# Altium footprint library RCU.PcbLib: 91 footprints (part 5 of 6)
Each footprint in its own frame and in the unit in brackets; x right, y up, seen from the top. Pads: shape width x height; smd on the part's side, far side on the other; paste and mask are expansions set on the pad; w line width, h text height; cw(c..) or ccw(c..) is an arc to the next point about the centre after c.
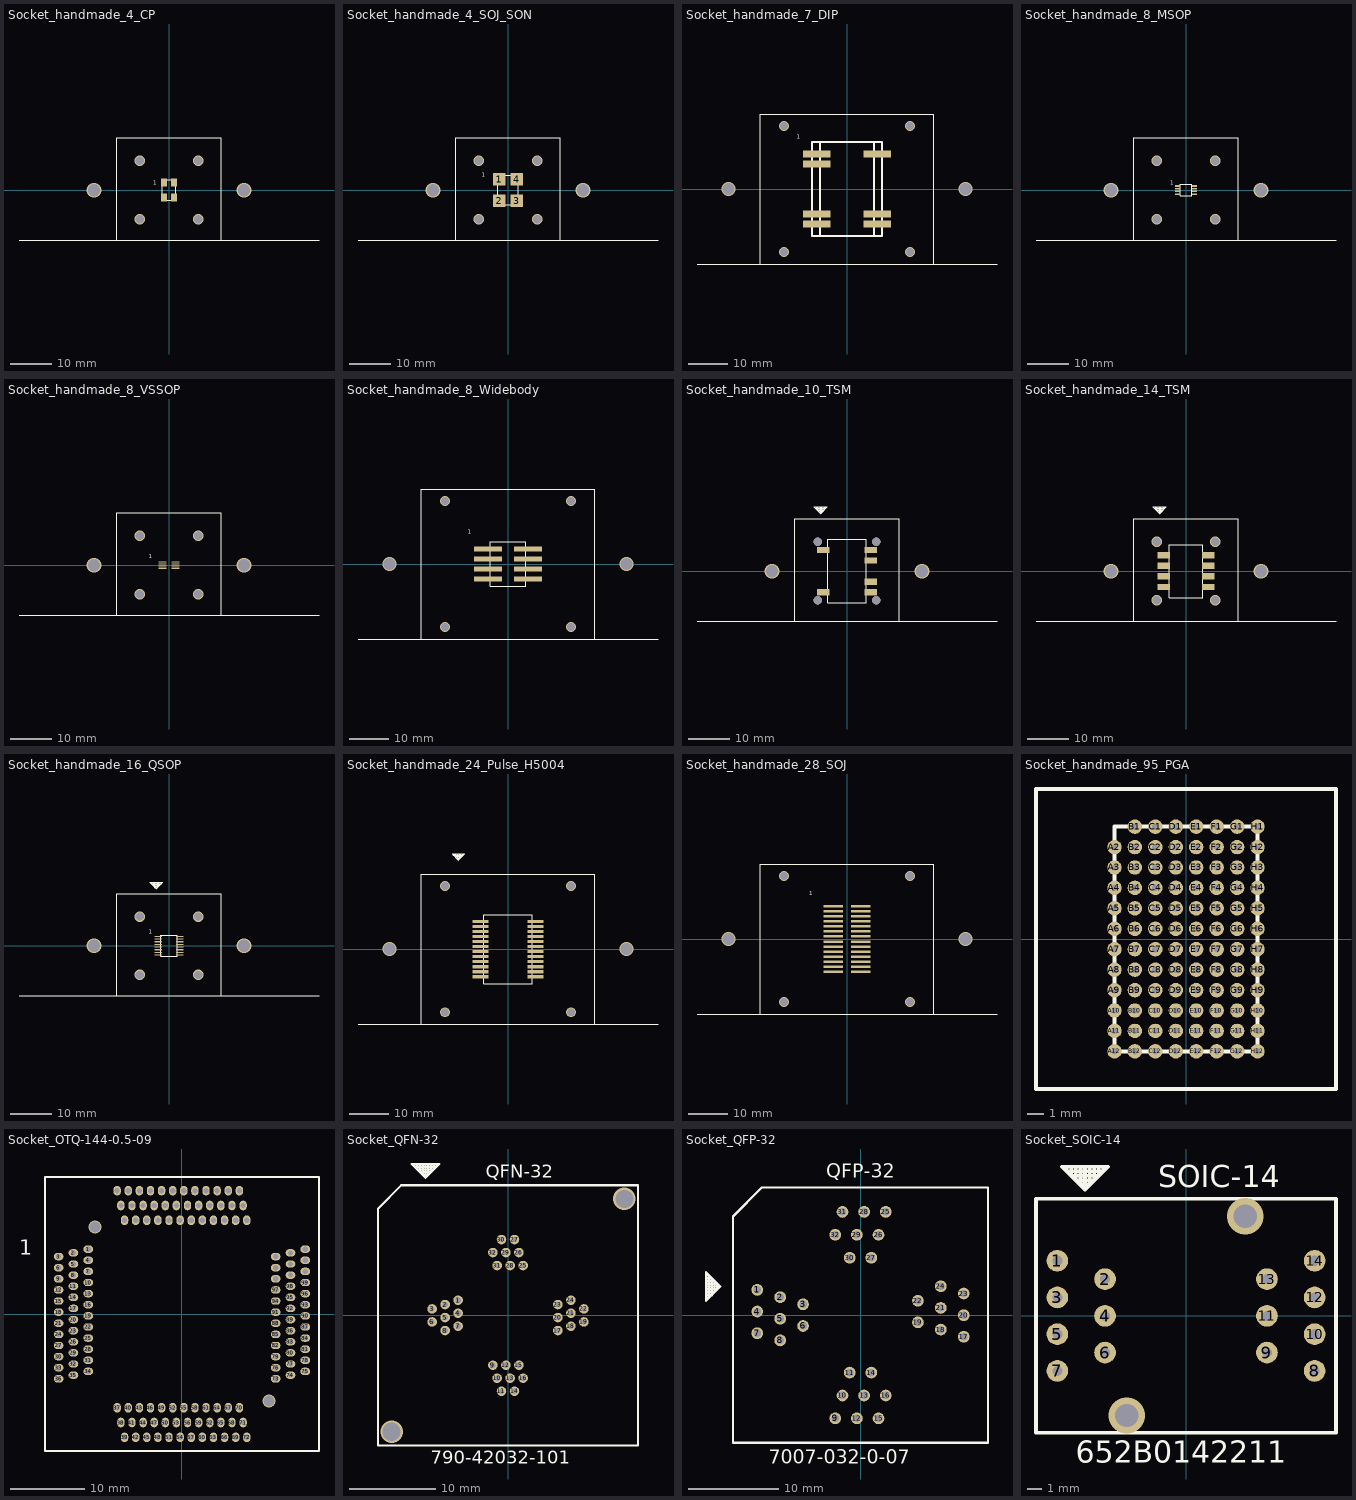
[diagram p4: the footprints below, top view; thin cyan lines are the x and y axes]

## Socket_handmade_4_CP [mm]
pads (4):
  rect 1.5x2 smd: 1(-1.2,1.8) 2(-1.2,-1.8) 3(1.2,-1.8) 4(1.2,1.8)
via -7,7 diameter 2.5 hole 2
via 7,7 diameter 2.5 hole 2
via 7,-7 diameter 2.5 hole 2
via -7,-7 diameter 2.5 hole 2
via -18,0 diameter 3.5 hole 3
via 18,0 diameter 3.5 hole 3
Top Overlay:
  lines w0.1: -1.6,-2.5 -1.6,2.5 1.6,2.5 1.6,-2.5 -1.6,-2.5
  lines w0.254: -36,-12 36,-12 ; -12.5,-12 12.5,-12 12.5,12.5 -12.5,12.5 -12.5,-12
  text "1" at -3.81,1.27 h1

## Socket_handmade_4_SOJ_SON [mm]
pads (4):
  rect 3x3 smd: 1(-2.1,2.54) 2(-2.1,-2.54) 3(2.1,-2.54) 4(2.1,2.54)
via -7,7 diameter 2.5 hole 2
via 7,7 diameter 2.5 hole 2
via 7,-7 diameter 2.5 hole 2
via -7,-7 diameter 2.5 hole 2
via -18,0 diameter 3.5 hole 3
via 18,0 diameter 3.5 hole 3
Top Overlay:
  lines w0.254: -36,-12 36,-12 ; -12.5,-12 12.5,-12 12.5,12.5 -12.5,12.5 -12.5,-12
  lines w0.3: -2.5,-3.5 2.5,-3.5 2.5,3.5 -2.5,3.5 -2.5,-3.5
  text "1" at -6.35,3.175 h1

## Socket_handmade_7_DIP [mm]
pads (7):
  rect 7x1.7 smd: 1(-7.62,8.89) 2(-7.62,6.35) 7(-7.62,-6.35) 8(-7.62,-8.89) 9(7.62,-8.89) 10(7.62,-6.35) 16(7.62,8.89)
via -16,16 diameter 2.5 hole 2
via 16,16 diameter 2.5 hole 2
via 16,-16 diameter 2.5 hole 2
via -16,-16 diameter 2.5 hole 2
via -30,0 diameter 3.5 hole 3
via 30,0 diameter 3.5 hole 3
Top Overlay:
  lines w0.254: -38,-19 38,-19 ; -22,-19 22,-19 22,19 -22,19 -22,-19
  lines w0.5: -6.85,-11.9 -6.85,11.9 ; 6.85,-11.9 6.85,11.9 ; -8.85,-11.9 8.85,-11.9 8.85,11.9 -8.85,11.9 -8.85,-8.85 -8.85,-11.9
  text "1" at -12.7,12.7 h1

## Socket_handmade_8_MSOP [mm]
pads (8):
  rect 1.175x0.4 smd: 1(-2.01,0.975) 2(-2.01,0.325) 3(-2.01,-0.325) 4(-2.01,-0.975) 5(2.01,-0.975) 6(2.01,-0.325) 7(2.01,0.325) 8(2.01,0.975)
via -7,7 diameter 2.5 hole 2
via 7,7 diameter 2.5 hole 2
via 7,-7 diameter 2.5 hole 2
via -7,-7 diameter 2.5 hole 2
via -18,0 diameter 3.5 hole 3
via 18,0 diameter 3.5 hole 3
Top Overlay:
  lines w0.254: -36,-12 36,-12 ; -12.5,-12 12.5,-12 12.5,12.5 -12.5,12.5 -12.5,-12 ; -1.4,-1.4 -1.4,1.4 1.4,1.4 1.4,-1.4 -1.4,-1.4
  text "1" at -3.81,1.27 h1

## Socket_handmade_8_VSSOP [mm]
pads (8):
  rect 2x0.3 smd: 1(-1.55,0.75) 2(-1.55,0.25) 3(-1.55,-0.25) 4(-1.55,-0.75) 5(1.55,-0.75) 6(1.55,-0.25) 7(1.55,0.25) 8(1.55,0.75)
via 18,0 diameter 3.5 hole 3
via -18,0 diameter 3.5 hole 3
via -7,-7 diameter 2.5 hole 2
via 7,-7 diameter 2.5 hole 2
via 7,7 diameter 2.5 hole 2
via -7,7 diameter 2.5 hole 2
Top Overlay:
  lines w0.254: -36,-12 36,-12 ; -12.5,-12 -12.5,12.5 12.5,12.5 12.5,-12 -12.5,-12
  text "1" at -4.8,1.6 h1

## Socket_handmade_8_Widebody [mm]
pads (8):
  rect 7x1.3 smd: 1(-5.08,3.81) 2(-5.08,1.27) 3(-5.08,-1.27) 4(-5.08,-3.81) 5(5.08,-3.81) 6(5.08,-1.27) 7(5.08,1.27) 8(5.08,3.81)
via 30,0 diameter 3.5 hole 3
via -30,0 diameter 3.5 hole 3
via -16,-16 diameter 2.5 hole 2
via 16,-16 diameter 2.5 hole 2
via 16,16 diameter 2.5 hole 2
via -16,16 diameter 2.5 hole 2
Top Overlay:
  lines w0.1: -4.5,-5.575 -4.5,5.575 4.5,5.575 4.5,-5.575 -4.5,-5.575
  lines w0.254: -38,-19 38,-19 ; -22,-19 -22,19 22,19 22,-19 -22,-19
  text "1" at -10.16,7.62 h1

## Socket_handmade_10_TSM [mm]
pads (6):
  rect 3x1.5 smd: 1(-5.655,5.08) 5(-5.655,-5.08) 6(5.655,-5.08) 7(5.655,-2.54) 9(5.655,2.54) 10(5.655,5.08)
via -7,7 diameter 2 hole 2
via 7,7 diameter 2 hole 2
via 7,-7 diameter 2 hole 2
via -7,-7 diameter 2 hole 2
via -18,0 diameter 3.5 hole 3
via 18,0 diameter 3.5 hole 3
Top Overlay:
  lines w0.254: -36,-12 36,-12 ; -7.62,15.399 -7.62,15.081 -5.08,15.081 -5.08,15.399 ; -7.302,15.399 -7.302,14.764 -5.397,14.764 -5.397,15.399 ; -6.985,15.399 -6.985,14.446 -5.715,14.446 -5.715,15.399 ; -6.667,15.399 -6.667,14.129 -6.032,14.129 -6.032,15.399 ; -6.35,15.399 -6.35,13.811 ; -6.35,13.811 -4.763,15.399 -7.938,15.399 -6.35,13.811 ; -12.5,-12 12.5,-12 12.5,12.5 -12.5,12.5 -12.5,-12 ; -4.65,-7.6 4.65,-7.6 4.65,7.6 -4.65,7.6 -4.65,-7.6

## Socket_handmade_14_TSM [mm]
pads (8):
  rect 3x1.5 smd: 1(-5.4,3.81) 3(-5.4,1.27) 5(-5.4,-1.27) 7(-5.4,-3.81) 8(5.4,-3.81) 10(5.4,-1.27) 12(5.4,1.27) 14(5.4,3.81)
via 18,0 diameter 3.5 hole 3
via -18,0 diameter 3.5 hole 3
via -7,-7 diameter 2.5 hole 2
via 7,-7 diameter 2.5 hole 2
via 7,7 diameter 2.5 hole 2
via -7,7 diameter 2.5 hole 2
Top Overlay:
  lines w0.254: -36,-12 36,-12 ; -7.62,15.399 -7.62,15.081 -5.08,15.081 -5.08,15.399 ; -7.302,15.399 -7.302,14.764 -5.397,14.764 -5.397,15.399 ; -6.985,15.399 -6.985,14.446 -5.715,14.446 -5.715,15.399 ; -6.667,15.399 -6.667,14.129 -6.032,14.129 -6.032,15.399 ; -6.35,15.399 -6.35,13.811 ; -6.35,13.811 -7.938,15.399 -4.763,15.399 -6.35,13.811 ; -12.5,-12 -12.5,12.5 12.5,12.5 12.5,-12 -12.5,-12 ; -4,-6.35 -4,6.35 4,6.35 4,-6.35 -4,-6.35

## Socket_handmade_16_QSOP [mm]
pads (16):
  rect 1.8x0.3 smd: 1(-2.56,2.24) 2(-2.56,1.6) 3(-2.56,0.96) 4(-2.56,0.32) 5(-2.56,-0.32) 6(-2.56,-0.96) 7(-2.56,-1.6) 8(-2.56,-2.24) 9(2.56,-2.24) 10(2.56,-1.6) 11(2.56,-0.96) 12(2.56,-0.32) 13(2.56,0.32) 14(2.56,0.96) 15(2.56,1.6) 16(2.56,2.24)
via -7,7 diameter 2.5 hole 2
via 7,7 diameter 2.5 hole 2
via 7,-7 diameter 2.5 hole 2
via -7,-7 diameter 2.5 hole 2
via -18,0 diameter 3.5 hole 3
via 18,0 diameter 3.5 hole 3
Top Overlay:
  lines w0.1: -2,-2.5 -2,2.5 2,2.5 2,-2.5 -2,-2.5
  lines w0.254: -36,-12 36,-12 ; -4.32,15.24 -4.32,14.922 -1.78,14.922 -1.78,15.24 ; -4.002,15.24 -4.002,14.605 -2.097,14.605 -2.097,15.24 ; -3.685,15.24 -3.685,14.287 -2.415,14.287 -2.415,15.24 ; -3.367,15.24 -3.367,13.97 -2.732,13.97 -2.732,15.24 ; -3.05,15.24 -3.05,13.652 ; -3.05,13.652 -4.637,15.24 -1.462,15.24 -3.05,13.652 ; -12.5,-12 12.5,-12 12.5,12.5 -12.5,12.5 -12.5,-12
  text "1" at -4.8,2.88 h1

## Socket_handmade_24_Pulse_H5004 [mm]
pads (24):
  rect 4x0.8 smd: 1(-6.988,6.988) 2(-6.988,5.718) 3(-6.988,4.447) 4(-6.988,3.177) 5(-6.988,1.906) 6(-6.988,0.635) 7(-6.988,-0.635) 8(-6.988,-1.906) 9(-6.988,-3.176) 10(-6.988,-4.447) 11(-6.988,-5.718) 12(-6.988,-6.988) 13(6.988,-6.988) 14(6.988,-5.718) 15(6.988,-4.447) 16(6.988,-3.176) 17(6.988,-1.906) 18(6.988,-0.635) 19(6.988,0.635) 20(6.988,1.906) 21(6.988,3.177) 22(6.988,4.447) 23(6.988,5.718) 24(6.988,6.988)
via -16,16 diameter 2.5 hole 2
via 16,16 diameter 2.5 hole 2
via 16,-16 diameter 2.5 hole 2
via -16,-16 diameter 2.5 hole 2
via -30,0 diameter 3.5 hole 3
via 30,0 diameter 3.5 hole 3
Top Overlay:
  lines w0.254: -38,-19 38,-19 ; -13.845,24.13 -13.845,23.812 -11.305,23.812 -11.305,24.13 ; -13.527,24.13 -13.527,23.495 -11.622,23.495 -11.622,24.13 ; -13.21,24.13 -13.21,23.177 -11.94,23.177 -11.94,24.13 ; -12.892,24.13 -12.892,22.86 -12.257,22.86 -12.257,24.13 ; -12.575,24.13 -12.575,22.543 ; -12.575,22.543 -14.162,24.13 -10.987,24.13 -12.575,22.543 ; -22,-19 22,-19 22,19 -22,19 -22,-19 ; -6.1,-8.765 6.1,-8.765 6.1,8.765 -6.1,8.765 -6.1,-8.765

## Socket_handmade_28_SOJ [mm]
pads (28):
  rect 5x0.635 smd: 1(-3.492,8.255) 2(-3.492,6.985) 3(-3.492,5.715) 4(-3.492,4.445) 5(-3.492,3.175) 6(-3.492,1.905) 7(-3.492,0.635) 8(-3.492,-0.635) 9(-3.492,-1.905) 10(-3.492,-3.175) 11(-3.492,-4.445) 12(-3.492,-5.715) 13(-3.492,-6.985) 14(-3.492,-8.255) 15(3.492,-8.255) 16(3.492,-6.985) 17(3.492,-5.715) 18(3.492,-4.445) 19(3.492,-3.175) 20(3.492,-1.905) 21(3.492,-0.635) 22(3.492,0.635) 23(3.492,1.905) 24(3.492,3.175) 25(3.492,4.445) 26(3.492,5.715) 27(3.492,6.985) 28(3.492,8.255)
via -16,16 diameter 2.5 hole 2
via 16,16 diameter 2.5 hole 2
via 16,-16 diameter 2.5 hole 2
via -16,-16 diameter 2.5 hole 2
via -30,0 diameter 3.5 hole 3
via 30,0 diameter 3.5 hole 3
Top Overlay:
  lines w0.254: -38,-19 38,-19 ; -22,-19 22,-19 22,19 -22,19 -22,-19
  text "1" at -9.525,11.112 h1

## Socket_handmade_95_PGA [mm]
pads (95):
  round 0.9 hole 0.4: A2(-4.445,5.715) A3(-4.445,4.445) A4(-4.445,3.175) A5(-4.445,1.905) A6(-4.445,0.635) A7(-4.445,-0.635) A8(-4.445,-1.905) A9(-4.445,-3.175) A10(-4.445,-4.445) A11(-4.445,-5.715) A12(-4.445,-6.985) B1(-3.175,6.985) B2(-3.175,5.715) B3(-3.175,4.445) B4(-3.175,3.175) B5(-3.175,1.905) B6(-3.175,0.635) B7(-3.175,-0.635) B8(-3.175,-1.905) B9(-3.175,-3.175) B10(-3.175,-4.445) B11(-3.175,-5.715) B12(-3.175,-6.985) C1(-1.905,6.985) C2(-1.905,5.715) C3(-1.905,4.445) C4(-1.905,3.175) C5(-1.905,1.905) C6(-1.905,0.635) C7(-1.905,-0.635) C8(-1.905,-1.905) C9(-1.905,-3.175) C10(-1.905,-4.445) C11(-1.905,-5.715) C12(-1.905,-6.985) D1(-0.635,6.985) D2(-0.635,5.715) D3(-0.635,4.445) D4(-0.635,3.175) D5(-0.635,1.905) D6(-0.635,0.635) D7(-0.635,-0.635) D8(-0.635,-1.905) D9(-0.635,-3.175) D10(-0.635,-4.445) D11(-0.635,-5.715) D12(-0.635,-6.985) E1(0.635,6.985) E2(0.635,5.715) E3(0.635,4.445) E4(0.635,3.175) E5(0.635,1.905) E6(0.635,0.635) E7(0.635,-0.635) E8(0.635,-1.905) E9(0.635,-3.175) E10(0.635,-4.445) E11(0.635,-5.715) E12(0.635,-6.985) F1(1.905,6.985) F2(1.905,5.715) F3(1.905,4.445) F4(1.905,3.175) F5(1.905,1.905) F6(1.905,0.635) F7(1.905,-0.635) F8(1.905,-1.905) F9(1.905,-3.175) F10(1.905,-4.445) F11(1.905,-5.715) F12(1.905,-6.985) G1(3.175,6.985) G2(3.175,5.715) G3(3.175,4.445) G4(3.175,3.175) G5(3.175,1.905) G6(3.175,0.635) G7(3.175,-0.635) G8(3.175,-1.905) G9(3.175,-3.175) G10(3.175,-4.445) G11(3.175,-5.715) G12(3.175,-6.985) H1(4.445,6.985) H2(4.445,5.715) H3(4.445,4.445) H4(4.445,3.175) H5(4.445,1.905) H6(4.445,0.635) H7(4.445,-0.635) H8(4.445,-1.905) H9(4.445,-3.175) H10(4.445,-4.445) H11(4.445,-5.715) H12(4.445,-6.985)
Top Overlay:
  lines w0.254: -9.325,-9.325 9.325,-9.325 9.325,9.325 -9.325,9.325 -9.325,-9.325 ; -4.445,-6.985 -4.445,6.985 4.445,6.985 4.445,-6.985 -4.445,-6.985

## Socket_OTQ-144-0.5-09 [mm]
pads (144):
  oval 1.3x1 hole 0.7: 1(-12.65,8.75) 2(-14.65,8.25) 3(-16.65,7.75) 4(-12.65,7.25) 5(-14.65,6.75) 6(-16.65,6.25) 7(-12.65,5.75) 8(-14.65,5.25) 9(-16.65,4.75) 10(-12.65,4.25) 11(-14.65,3.75) 12(-16.65,3.25) 13(-12.65,2.75) 14(-14.65,2.25) 15(-16.65,1.75) 16(-12.65,1.25) 17(-14.65,0.75) 18(-16.65,0.25) 19(-12.65,-0.25) 20(-14.65,-0.75) 21(-16.65,-1.25) 22(-12.65,-1.75) 23(-14.65,-2.25) 24(-16.65,-2.75) 25(-12.65,-3.25) 26(-14.65,-3.75) 27(-16.65,-4.25) 28(-12.65,-4.75) 29(-14.65,-5.25) 30(-16.65,-5.75) 31(-12.65,-6.25) 32(-14.65,-6.75) 33(-16.65,-7.25) 34(-12.65,-7.75) 35(-14.65,-8.25) 36(-16.65,-8.75) 73(12.65,-8.75) 74(14.65,-8.25) 75(16.65,-7.75) 76(12.65,-7.25) 77(14.65,-6.75) 78(16.65,-6.25) 79(12.65,-5.75) 80(14.65,-5.25) 81(16.65,-4.75) 82(12.65,-4.25) 83(14.65,-3.75) 84(16.65,-3.25) 85(12.65,-2.75) 86(14.65,-2.25) 87(16.65,-1.75) 88(12.65,-1.25) 89(14.65,-0.75) 90(16.65,-0.25) 91(12.65,0.25) 92(14.65,0.75) 93(16.65,1.25) 94(12.65,1.75) 95(14.65,2.25) 96(16.65,2.75) 97(12.65,3.25) 98(14.65,3.75) 99(16.65,4.25) 100(12.65,4.75) 101(14.65,5.25) 102(16.65,5.75) 103(12.65,6.25) 104(14.65,6.75) 105(16.65,7.25) 106(12.65,7.75) 107(14.65,8.25) 108(16.65,8.75)
  oval 1x1.3 hole 0.7: 37(-8.75,-12.65) 38(-8.25,-14.65) 39(-7.75,-16.65) 40(-7.25,-12.65) 41(-6.75,-14.65) 42(-6.25,-16.65) 43(-5.75,-12.65) 44(-5.25,-14.65) 45(-4.75,-16.65) 46(-4.25,-12.65) 47(-3.75,-14.65) 48(-3.25,-16.65) 49(-2.75,-12.65) 50(-2.25,-14.65) 51(-1.75,-16.65) 52(-1.25,-12.65) 53(-0.75,-14.65) 54(-0.25,-16.65) 55(0.25,-12.65) 56(0.75,-14.65) 57(1.25,-16.65) 58(1.75,-12.65) 59(2.25,-14.65) 60(2.75,-16.65) 61(3.25,-12.65) 62(3.75,-14.65) 63(4.25,-16.65) 64(4.75,-12.65) 65(5.25,-14.65) 66(5.75,-16.65) 67(6.25,-12.65) 68(6.75,-14.65) 69(7.25,-16.65) 70(7.75,-12.65) 71(8.25,-14.65) 72(8.75,-16.65) 109(8.75,12.65) 110(8.25,14.65) 111(7.75,16.65) 112(7.25,12.65) 113(6.75,14.65) 114(6.25,16.65) 115(5.75,12.65) 116(5.25,14.65) 117(4.75,16.65) 118(4.25,12.65) 119(3.75,14.65) 120(3.25,16.65) 121(2.75,12.65) 122(2.25,14.65) 123(1.75,16.65) 124(1.25,12.65) 125(0.75,14.65) 126(0.25,16.65) 127(-0.25,12.65) 128(-0.75,14.65) 129(-1.25,16.65) 130(-1.75,12.65) 131(-2.25,14.65) 132(-2.75,16.65) 133(-3.25,12.65) 134(-3.75,14.65) 135(-4.25,16.65) 136(-4.75,12.65) 137(-5.25,14.65) 138(-5.75,16.65) 139(-6.25,12.65) 140(-6.75,14.65) 141(-7.25,16.65) 142(-7.75,12.65) 143(-8.25,14.65) 144(-8.75,16.65)
via -11.75,11.75 diameter 1.8 hole 1.5
via 11.75,-11.75 diameter 1.8 hole 1.5
Top Overlay:
  lines w0.254: -18.5,-18.5 18.5,-18.5 18.5,18.5 -18.5,18.5 -18.5,-18.5
  text "1" at -22,8 h2

## Socket_QFN-32 [mm] "790-42032-101T"
pads (32):
  round 1.1 hole 0.6: 1(-5.75,1.75) 2(-7.25,1.25) 3(-8.75,0.75) 4(-5.75,0.25) 5(-7.25,-0.25) 6(-8.75,-0.75) 7(-5.75,-1.25) 8(-7.25,-1.75) 9(-1.75,-5.75) 10(-1.25,-7.25) 11(-0.75,-8.75) 12(-0.25,-5.75) 13(0.25,-7.25) 14(0.75,-8.75) 15(1.25,-5.75) 16(1.75,-7.25) 17(5.75,-1.75) 18(7.25,-1.25) 19(8.75,-0.75) 20(5.75,-0.25) 21(7.25,0.25) 22(8.75,0.75) 23(5.75,1.25) 24(7.25,1.75) 25(1.75,5.75) 26(1.25,7.25) 27(0.75,8.75) 28(0.25,5.75) 29(-0.25,7.25) 30(-0.75,8.75) 31(-1.25,5.75) 32(-1.75,7.25)
via 13.435,13.435 diameter 2.6 hole 2.1
via -13.435,-13.435 diameter 2.6 hole 2.1
Top Overlay:
  lines w0.254: -10.795,17.462 -10.795,17.145 -8.255,17.145 -8.255,17.462 ; -10.477,17.462 -10.477,16.828 -8.572,16.828 -8.572,17.462 ; -10.16,17.462 -10.16,16.51 -8.89,16.51 -8.89,17.462 ; -9.842,17.462 -9.842,16.192 -9.207,16.192 -9.207,17.462 ; -9.525,17.462 -9.525,15.875 ; -9.525,15.875 -11.112,17.462 -7.938,17.462 -9.525,15.875 ; -15,-15 15,-15 15,15 -12.305,15 -15,12.305 -15,-15
  text "790-42032-101" at -8.89,-17.145 h1.52
  text "QFN-32" at -2.54,15.875 h1.52

## Socket_QFP-32 [mm] "7007-032-0-07"
pads (32):
  round 1.3 hole 0.83: 1(-11.45,2.8) 2(-8.91,2) 3(-6.37,1.2) 4(-11.45,0.4) 5(-8.91,-0.4) 6(-6.37,-1.2) 7(-11.45,-2) 8(-8.91,-2.8) 9(-2.8,-11.45) 10(-2,-8.91) 11(-1.2,-6.37) 12(-0.4,-11.45) 13(0.4,-8.91) 14(1.2,-6.37) 15(2,-11.45) 16(2.8,-8.91) 17(11.45,-2.4) 18(8.91,-1.6) 19(6.37,-0.8) 20(11.45,0) 21(8.91,0.8) 22(6.37,1.6) 23(11.45,2.4) 24(8.91,3.2) 25(2.8,11.45) 26(2,8.91) 27(1.2,6.37) 28(0.4,11.45) 29(-0.4,8.91) 30(-1.2,6.37) 31(-2,11.45) 32(-2.8,8.91)
Top Overlay:
  lines w0.254: -17.145,1.905 -16.828,1.905 -16.828,4.445 -17.145,4.445 ; -17.145,2.222 -16.51,2.222 -16.51,4.127 -17.145,4.127 ; -17.145,2.54 -16.192,2.54 -16.192,3.81 -17.145,3.81 ; -17.145,2.857 -15.875,2.857 -15.875,3.492 -17.145,3.492 ; -17.145,3.175 -15.557,3.175 ; -15.557,3.175 -17.145,4.763 -17.145,1.587 -15.557,3.175 ; -14.15,-14.15 14.15,-14.15 14.15,14.15 -10.95,14.15 -14.15,10.95 -14.15,-14.15
  text "QFP-32" at -3.81,15.24 h1.52
  text "7007-032-0-07" at -10.16,-16.51 h1.52

## Socket_SOIC-14 [mm] "652B0142211"
pads (14):
  round 1.5 hole 0.7: 1(-8.9,3.81) 2(-5.6,2.54) 3(-8.9,1.27) 4(-5.6,0) 5(-8.9,-1.27) 6(-5.6,-2.54) 7(-8.9,-3.81) 8(8.9,-3.81) 9(5.6,-2.54) 10(8.9,-1.27) 11(5.6,0) 12(8.9,1.27) 13(5.6,2.54) 14(8.9,3.81)
via 4.1,6.89 diameter 2.5 hole 1.6
via -4.1,-6.89 diameter 2.5 hole 1.6
Top Overlay:
  lines w0.254: -8.255,10.319 -8.255,10.001 -5.715,10.001 -5.715,10.319 ; -7.938,10.319 -7.938,9.684 -6.032,9.684 -6.032,10.319 ; -7.62,10.319 -7.62,9.366 -6.35,9.366 -6.35,10.319 ; -7.302,10.319 -7.302,9.049 -6.667,9.049 -6.667,10.319 ; -6.985,10.319 -6.985,8.731 ; -6.985,8.731 -5.397,10.319 -8.572,10.319 -6.985,8.731 ; -10.375,-8.09 -10.375,8.09 10.375,8.09 10.375,-8.09 -10.375,-8.09
  text "SOIC-14" at -1.905,8.89 h1.52
  text "652B0142211" at -7.62,-10.16 h1.52